# Altium schematic symbol library ICS.SchLib: 25 symbols
Pins are listed as number, name and electrical type; pins without a type are passive.

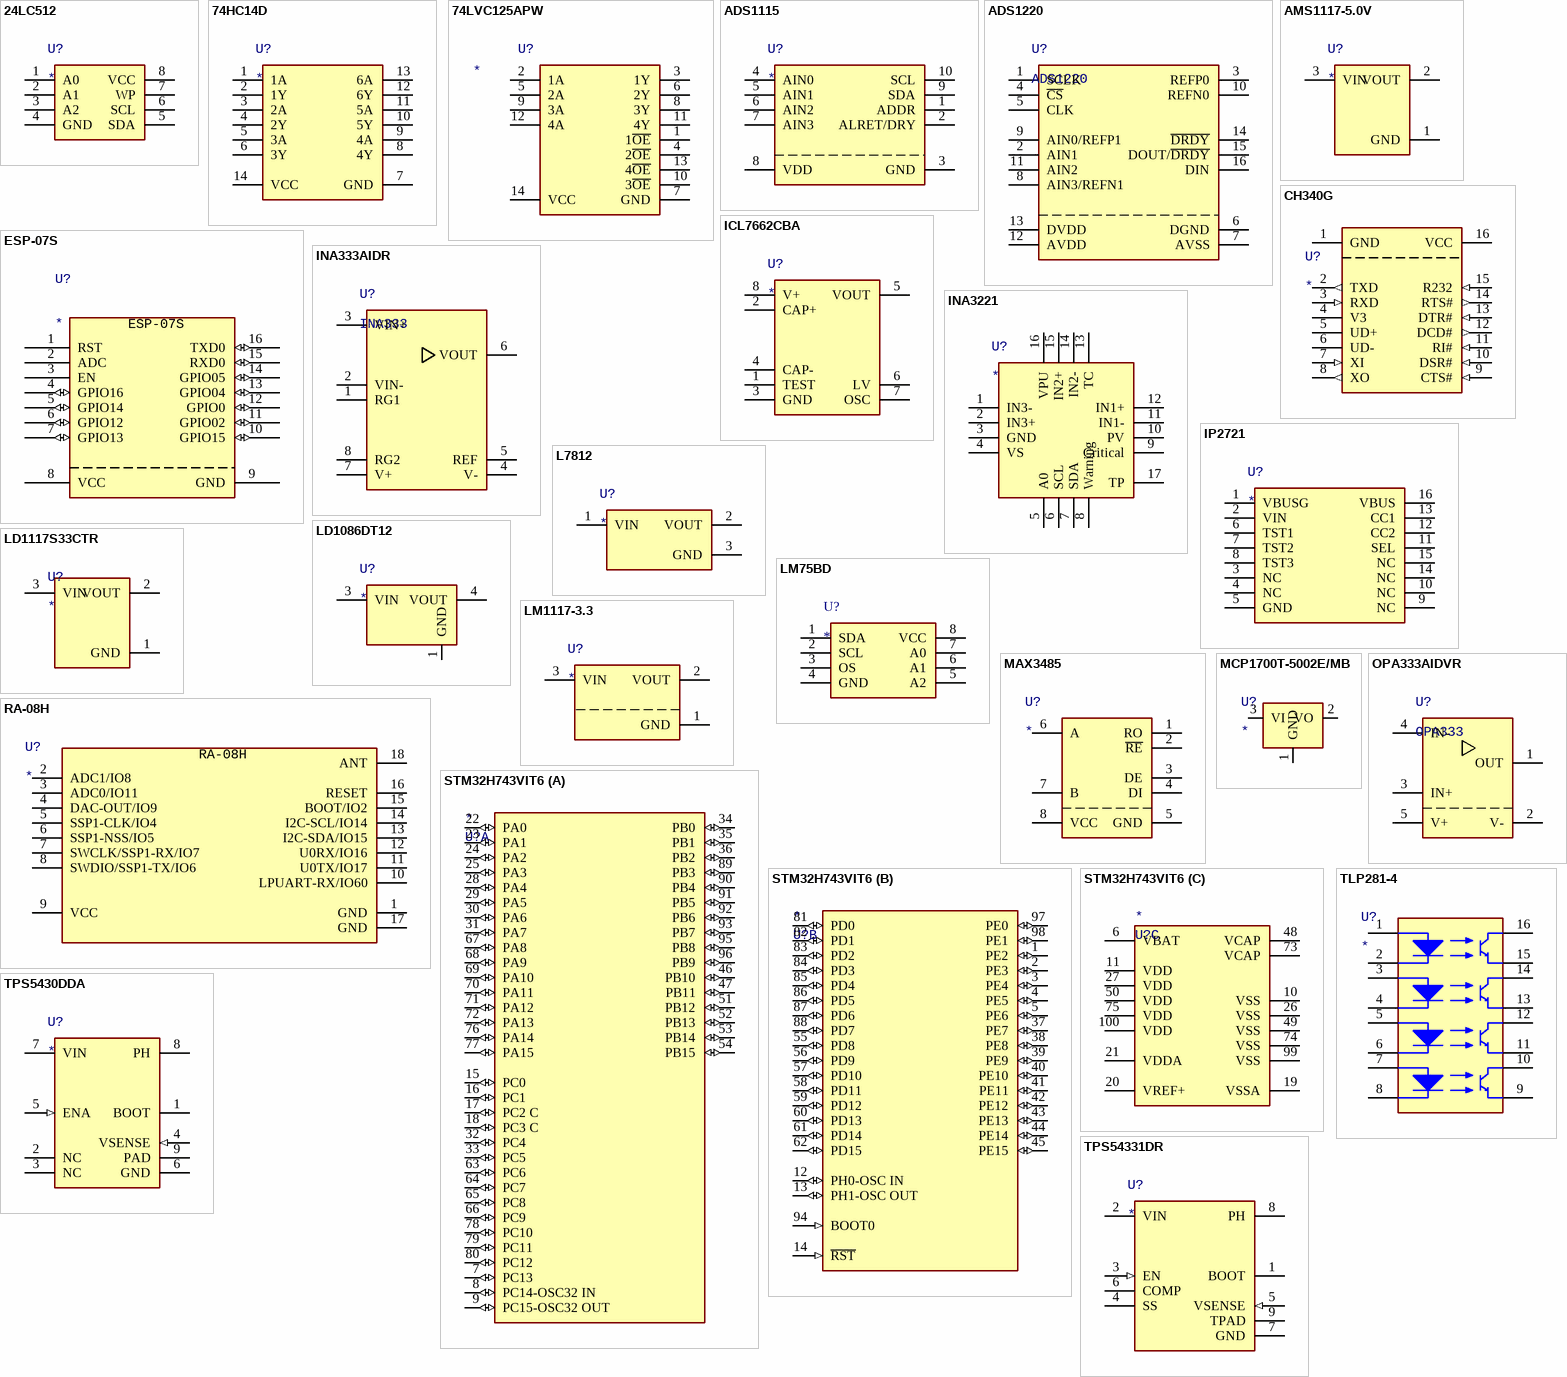
[diagram p0: symbols 24LC512 to TPS54331DR]

## 24LC512
designator U?
pins: 1 A0, 2 A1, 3 A2, 4 GND (power), 5 SDA, 6 SCL, 7 WP, 8 VCC (power)

## 74HC14D
designator U?
pins: 1 1A, 2 1Y, 3 2A, 4 2Y, 5 3A, 6 3Y, 7 GND, 8 4Y, 9 4A, 10 5Y, 11 5A, 12 6Y, 13 6A, 14 VCC

## 74LVC125APW
designator U?
pins: 1 1~{OE}, 2 1A, 3 1Y, 4 2~{OE}, 5 2A, 6 2Y, 7 GND, 8 3Y, 9 3A, 10 3~{OE}, 11 4Y, 12 4A, 13 4~{OE}, 14 VCC

## ADS1115
designator U?
pins: 1 ADDR, 2 ALRET/DRY, 3 GND, 4 AIN0, 5 AIN1, 6 AIN2, 7 AIN3, 8 VDD, 9 SDA, 10 SCL

## ADS1220
designator U?
footprint TSSOP 16
pins: 1 SCLK, 2 AIN1, 3 REFP0, 4 ~{CS}, 5 CLK, 6 DGND, 7 AVSS, 8 AIN3/REFN1, 9 AIN0/REFP1, 10 REFN0, 11 AIN2, 12 AVDD, 13 DVDD, 14 ~{DRDY}, 15 DOUT/~{DRDY}, 16 DIN

## AMS1117-5.0V
designator U?
pins: 1 GND, 2 VOUT, 3 VIN

## CH340G
designator U?
pins: 1 GND (power), 2 TXD (out), 3 RXD (in), 4 V3 (power), 5 UD+, 6 UD-, 7 XI (in), 8 XO (out), 9 CTS# (in), 10 DSR# (in), 11 RI# (in), 12 DCD# (out), 13 DTR# (in), 14 RTS# (out), 15 R232 (in), 16 VCC (power)

## ESP-07S
designator U?
pins: 1 RST, 2 ADC, 3 EN, 4 GPIO16 (io), 5 GPIO14 (io), 6 GPIO12 (io), 7 GPIO13 (io), 8 VCC (power), 9 GND (power), 10 GPIO15 (io), 11 GPIO02 (io), 12 GPIO0 (io), 13 GPIO04 (io), 14 GPIO05 (io), 15 RXD0 (io), 16 TXD0 (io)

## ICL7662CBA
designator U?
pins: 1 TEST, 2 CAP+, 3 GND, 4 CAP-, 5 VOUT, 6 LV, 7 OSC, 8 V+ (power)

## INA333AIDR
designator U?, comment INA333
footprint VSSOP8
pins: 1 RG1, 2 VIN-, 3 VIN+, 4 V-, 5 REF, 6 VOUT, 7 V+, 8 RG2

## INA3221
designator U?
pins: 1 IN3-, 2 IN3+, 3 GND, 4 VS, 5 A0, 6 SCL, 7 SDA, 8 Warning, 9 Critical, 10 PV, 11 IN1-, 12 IN1+, 13 TC, 14 IN2-, 15 IN2+, 16 VPU, 17 TP

## IP2721
designator U?
pins: 1 VBUSG, 2 VIN, 3 NC, 4 NC, 5 GND, 6 TST1, 7 TST2, 8 TST3, 9 NC, 10 NC, 11 SEL, 12 CC2, 13 CC1, 14 NC, 15 NC, 16 VBUS

## L7812
designator U?
pins: 1 VIN (power), 2 VOUT (power), 3 GND

## LD1086DT12
designator U?
pins: 1 GND, 3 VIN, 4 VOUT

## LD1117S33CTR
designator U?
pins: 1 GND, 2 VOUT, 3 VIN

## LM75BD
designator U?
pins: 1 SDA, 2 SCL, 3 OS, 4 GND, 5 A2, 6 A1, 7 A0, 8 VCC

## LM1117-3.3
designator U?
pins: 1 GND, 2 VOUT, 3 VIN

## MAX3485
designator U?
pins: 1 RO, 2 ~{RE}, 3 DE, 4 DI, 5 GND, 6 A, 7 B, 8 VCC

## MCP1700T-5002E/MB
designator U?
pins: 1 GND, 2 VO, 3 VI

## OPA333AIDVR
designator U?, comment OPA333
footprint SOT23-5
pins: 1 OUT, 2 V-, 3 IN+, 4 IN-, 5 V+

## RA-08H
designator U?
pins: 1 GND, 2 ADC1/IO8, 3 ADC0/IO11, 4 DAC-OUT/IO9, 5 SSP1-CLK/IO4, 6 SSP1-NSS/IO5, 7 SWCLK/SSP1-RX/IO7, 8 SWDIO/SSP1-TX/IO6, 9 VCC, 10 LPUART-RX/IO60, 11 U0TX/IO17, 12 U0RX/IO16, 13 I2C-SDA/IO15, 14 I2C-SCL/IO14, 15 BOOT/IO2, 16 RESET, 17 GND, 18 ANT

## STM32H743VIT6
designator U?
part A pins: 7 PC13 (io), 8 PC14-OSC32 IN (io), 9 PC15-OSC32 OUT (io), 15 PC0 (io), 16 PC1 (io), 17 PC2 C (io), 18 PC3 C (io), 22 PA0 (io), 23 PA1 (io), 24 PA2 (io), 25 PA3 (io), 28 PA4 (io), 29 PA5 (io), 30 PA6 (io), 31 PA7 (io), 32 PC4 (io), 33 PC5 (io), 34 PB0 (io), 35 PB1 (io), 36 PB2 (io), 46 PB10 (io), 47 PB11 (io), 51 PB12 (io), 52 PB13 (io), 53 PB14 (io), 54 PB15 (io), 63 PC6 (io), 64 PC7 (io), 65 PC8 (io), 66 PC9 (io), 67 PA8 (io), 68 PA9 (io), 69 PA10 (io), 70 PA11 (io), 71 PA12 (io), 72 PA13 (io), 76 PA14 (io), 77 PA15 (io), 78 PC10 (io), 79 PC11 (io), 80 PC12 (io), 89 PB3 (io), 90 PB4 (io), 91 PB5 (io), 92 PB6 (io), 93 PB7 (io), 95 PB8 (io), 96 PB9 (io)
part B pins: 1 PE2 (io), 2 PE3 (io), 3 PE4 (io), 4 PE5 (io), 5 PE6 (io), 12 PH0-OSC IN (io), 13 PH1-OSC OUT (io), 14 ~{RST} (in), 37 PE7 (io), 38 PE8 (io), 39 PE9 (io), 40 PE10 (io), 41 PE11 (io), 42 PE12 (io), 43 PE13 (io), 44 PE14 (io), 45 PE15 (io), 55 PD8 (io), 56 PD9 (io), 57 PD10 (io), 58 PD11 (io), 59 PD12 (io), 60 PD13 (io), 61 PD14 (io), 62 PD15 (io), 81 PD0 (io), 82 PD1 (io), 83 PD2 (io), 84 PD3 (io), 85 PD4 (io), 86 PD5 (io), 87 PD6 (io), 88 PD7 (io), 94 BOOT0 (in), 97 PE0 (io), 98 PE1 (io)
part C pins: 6 VBAT (power), 10 VSS (power), 11 VDD (power), 19 VSSA (power), 20 VREF+ (power), 21 VDDA (power), 26 VSS (power), 27 VDD (power), 48 VCAP, 49 VSS (power), 50 VDD (power), 73 VCAP, 74 VSS (power), 75 VDD (power), 99 VSS (power), 100 VDD (power)

## TLP281-4
designator U?
pins: 1, 2, 3, 4, 5, 6, 7, 8, 9, 10, 11, 12, 13, 14, 15, 16

## TPS5430DDA
designator U?
pins: 1 BOOT, 2 NC, 3 NC, 4 VSENSE (in), 5 ENA (in), 6 GND (power), 7 VIN (power), 8 PH (power), 9 PAD

## TPS54331DR
designator U?
pins: 1 BOOT, 2 VIN (power), 3 EN (in), 4 SS, 5 VSENSE (in), 6 COMP, 7 GND (power), 8 PH, 9 TPAD